# Altium footprint library DIOAD2120W130L950D530P.PcbLib: 1 footprints
Each footprint in its own frame and in the unit in brackets; x right, y up, seen from the top. Pads: shape width x height; smd on the part's side, far side on the other; paste and mask are expansions set on the pad; w line width, h text height; cw(c..) or ccw(c..) is an arc to the next point about the centre after c.
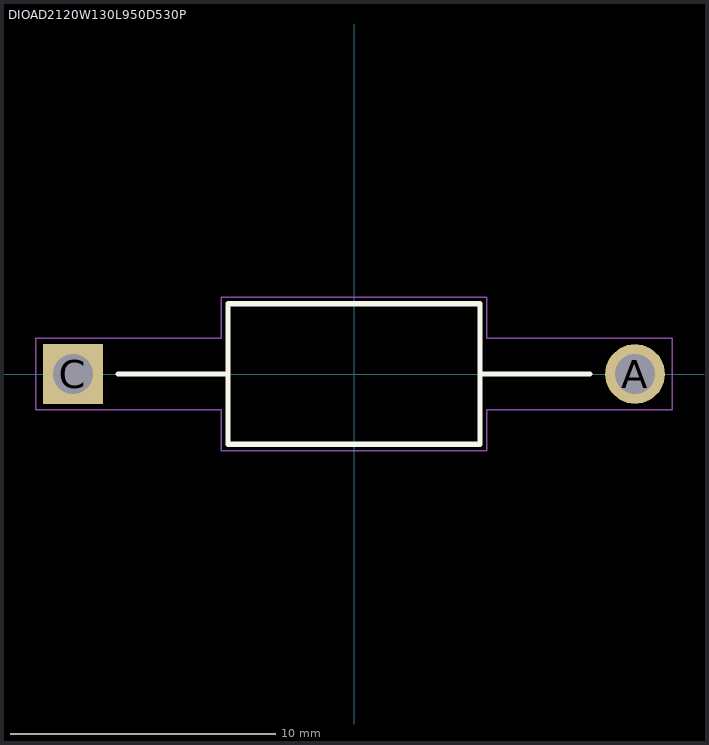
[diagram p0: the footprint, top view; thin cyan lines are the x and y axes]

## DIOAD2120W130L950D530P [mm]
pads (2):
  round 2.25 hole 1.5 mask+0.102: A(10.6,0)
  rect 2.25x2.25 / inner round 2.25 / far side rect 2.25x2.25 hole 1.5 mask+0.102: C(-10.6,0)
Top Overlay:
  lines w0.2: -8.89,0 -4.8,0 ; 4.8,0 8.89,0 ; -4.75,-2.65 4.75,-2.65 4.75,2.65 -4.75,2.65 -4.75,-2.65
Courtyard Top:
  lines w0.05: -12,-1.35 -12,1.35 -5,1.35 -5,2.9 5,2.9 5,1.35 12,1.35 12,-1.35 5,-1.35 5,-2.9 -5,-2.9 -5,-1.35 -12,-1.35
3D body "step_temp.STEP": height 2.25, standoff -2.25, extent -2.25,-34.4 2.25,28.1